# Altium schematic symbol library BQ29412DCTRG4.SchLib: 2 symbols
Pins are listed as number, name and electrical type; pins without a type are passive.

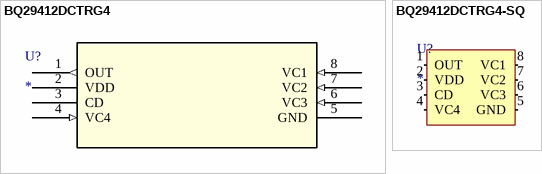
[diagram p0: symbols BQ29412DCTRG4 to BQ29412DCTRG4-SQ]

## BQ29412DCTRG4
designator U?
No Description Available; Mfr_Name: Texas Instruments; RefDes: RefDes; Type: Type
footprint DCT8
pins: 1 OUT (out), 2 VDD (power), 3 CD, 4 VC4 (in), 5 GND (power), 6 VC3 (in), 7 VC2 (in), 8 VC1 (in)

## BQ29412DCTRG4-SQ
designator U?
footprint DCT8
pins: 1 OUT (out), 2 VDD (power), 3 CD, 4 VC4 (in), 5 GND (power), 6 VC3 (in), 7 VC2 (in), 8 VC1 (in)